# Altium footprint library ECE453-Interface.PcbLib: 37 footprints (part 3 of 3)
Each footprint in its own frame and in the unit in brackets; x right, y up, seen from the top. Pads: shape width x height; smd on the part's side, far side on the other; paste and mask are expansions set on the pad; w line width, h text height; cw(c..) or ccw(c..) is an arc to the next point about the centre after c.
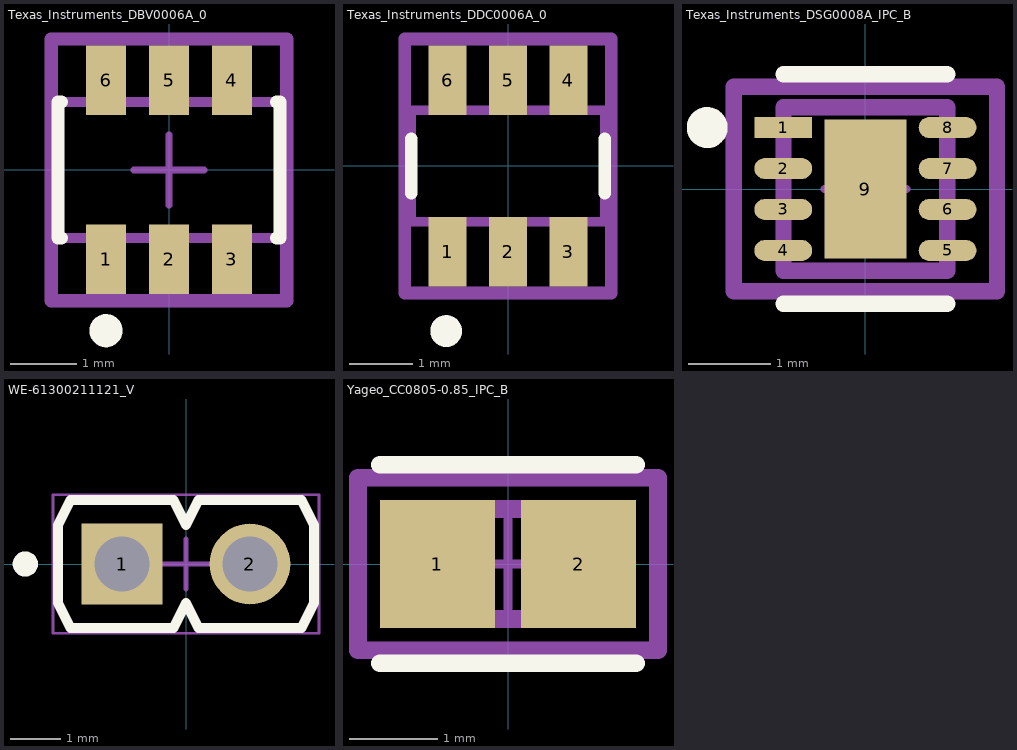
[diagram p2: the footprints below, top view; thin cyan lines are the x and y axes]

## Texas_Instruments_DBV0006A_0 [mm]
pads (6):
  rect 0.6x1.05 smd paste-1000 mask+0: 1(-0.95,-1.35) 2(0,-1.35) 3(0.95,-1.35) 4(0.95,1.35) 5(0,1.35) 6(-0.95,1.35)
Top Overlay:
  circle w0.25: c-0.95,-2.425 r0.125
  lines w0.2: -1.625,-1.025 -1.675,-1.025 -1.675,1.025 -1.625,1.025 ; 1.625,-1.025 1.675,-1.025 1.675,1.025 1.625,1.025
Top Paste:
  rectangle: -0.275,-1.85 0.275,-0.85
  rectangle: -0.275,0.85 0.275,1.85
  rectangle: 0.675,0.85 1.225,1.85
  rectangle: -1.225,0.85 -0.675,1.85
  rectangle: 0.675,-1.85 1.225,-0.85
  rectangle: -1.225,-1.85 -0.675,-0.85
Mechanical 10:
  lines w0.2: -1.775,-1.975 -1.775,1.975 1.775,1.975 1.775,-1.975 -1.775,-1.975
Mechanical 12:
  lines w0.15: -1.675,-1.025 -1.675,1.025 1.675,1.025 1.675,-1.025 -1.675,-1.025
Mechanical 15:
  lines w0.1: -0.533,0 0.533,0 ; 0,-0.533 0,0.533 ; -0.5,0 0.5,0 -0.5,0 ; 0,-0.5 0,0.5 0,-0.5
  lines w0.2: -1.775,-1.975 -1.775,1.975 1.775,1.975 1.775,-1.975 -1.775,-1.975
3D body "IC_Texas_Instruments_SN74LVC1G11DBVR_eec.STEP": height 0.25, standoff 0, extent -1.775,-1.975 1.775,1.975

## Texas_Instruments_DDC0006A_0 [mm] "a2d for ph"
pads (6):
  rect 0.6x1.1 smd paste+0 mask+0: 1(-0.95,-1.35) 2(0,-1.35) 3(0.95,-1.35) 4(0.95,1.35) 5(0,1.35) 6(-0.95,1.35)
Top Overlay:
  circle w0.25: c-0.975,-2.6 r0.125
  lines w0.2: -1.525,-0.425 -1.525,0.425 ; 1.525,-0.425 1.525,0.425
Mechanical 10:
  lines w0.2: -1.625,-2 1.625,-2 1.625,2 -1.625,2 -1.625,-2
Mechanical 12:
  lines w0.15: -1.525,-0.875 1.525,-0.875 1.525,0.875 -1.525,0.875 -1.525,-0.875
Mechanical 15:
  lines w0.2: -1.625,-2 1.625,-2 1.625,2 -1.625,2 -1.625,-2
3D body "IC_Texas_Instruments_ADC101C027CIMK-NOPB_eec.STEP": height 0.25, standoff 0, extent -1.625,-2 1.625,2

## Texas_Instruments_DSG0008A_IPC_B [mm] "Temp Sensor"
pads (9):
  rect 0.706x0.257 smd paste+0 mask+0: 1(-1.003,0.75)
  rrect100% 0.706x0.257 smd paste+0 mask+0: 2(-1.003,0.25) 3(-1.003,-0.25) 4(-1.003,-0.75) 5(1.003,-0.75) 6(1.003,-0.25) 7(1.003,0.25) 8(1.003,0.75)
  rect 1x1.7 smd paste-1000 mask+0: 9(0,0)
Top Overlay:
  circle w0.25: c-1.931,0.75 r0.125
  lines w0.2: -1,-1.4 1,-1.4 ; -1,1.4 1,1.4
Top Paste:
  rectangle: -0.273,-0.623 0.273,0.623
Mechanical 10:
  lines w0.2: -1.606,-1.25 -1.606,1.25 1.606,1.25 1.606,-1.25 -1.606,-1.25
Mechanical 12:
  lines w0.2: -1,-1 -1,1 1,1 1,-1 -1,-1
Mechanical 15:
  lines w0.1: -0.5,0 0.5,0 ; 0,-0.5 0,0.5
  lines w0.2: -1.606,-1.25 -1.606,1.25 1.606,1.25 1.606,-1.25 -1.606,-1.25

## WE-61300211121_V [mm] "Header, 2-Leads, Body 5.08x2.54mm, Pitch 2.54mm"
height 8.54
pads (2):
  rect 1.6x1.6 hole 1.1: 1(-1.27,0)
  round 1.6 hole 1.1: 2(1.27,0)
Top Overlay:
  circle w0.25: c-3.19,0 r0.125
  lines w0.2: -2.54,-0.77 -2.29,-1.27 -0.25,-1.27 0,-0.77 0.25,-1.27 2.29,-1.27 2.54,-0.77 2.54,0.77 2.29,1.27 0.25,1.27 0,0.77 -0.25,1.27 -2.29,1.27 -2.54,0.77 -2.54,-0.77
Mechanical 13:
  lines w0.1: -2.54,-0.77 -2.54,0.77 -2.29,1.27 -0.25,1.27 0,0.77 0.25,1.27 2.29,1.27 2.54,0.77 2.54,-0.77 2.29,-1.27 0.25,-1.27 0,-0.77 -0.25,-1.27 -2.29,-1.27 -2.54,-0.77
Mechanical 15:
  lines w0.05: -2.64,-1.37 -2.64,1.37 2.64,1.37 2.64,-1.37 -2.64,-1.37
  lines w0.1: -0.5,0 0.5,0 ; 0,-0.5 0,0.5
3D body "STEP-61300211121-rev1.stp": height 8.54, standoff -3, extent -2.54,-1.27 2.54,1.27

## Yageo_CC0805-0.85_IPC_B [mm] "0805 cap"
pads (2):
  rect 1.305x1.456 smd paste+0 mask+0: 1(-0.801,0) 2(0.801,0)
Top Overlay:
  lines w0.2: -1.453,-1.128 1.453,-1.128 ; -1.453,1.128 1.453,1.128
Mechanical 10:
  lines w0.2: -1.703,-0.978 -1.703,0.978 1.703,0.978 1.703,-0.978 -1.703,-0.978
  text ".Designator" at 0,0 h1
Mechanical 12:
  lines w0.2: -1,-0.625 -1,0.625 1,0.625 1,-0.625 -1,-0.625
Mechanical 15:
  lines w0.1: -0.5,0 0.5,0 ; 0,-0.5 0,0.5
  lines w0.2: -1.703,-0.978 -1.703,0.978 1.703,0.978 1.703,-0.978 -1.703,-0.978
3D body "Cap_Yageo_CC0805KRX7R9BB103_eec.STEP": height 0.25, standoff 0, extent -1.703,-0.978 1.703,0.978